# Altium footprint library Crazyflie_Shield3.PcbLib: 25 footprints (part 1 of 2)
Each footprint in its own frame and in the unit in brackets; x right, y up, seen from the top. Pads: shape width x height; smd on the part's side, far side on the other; paste and mask are expansions set on the pad; w line width, h text height; cw(c..) or ccw(c..) is an arc to the next point about the centre after c.
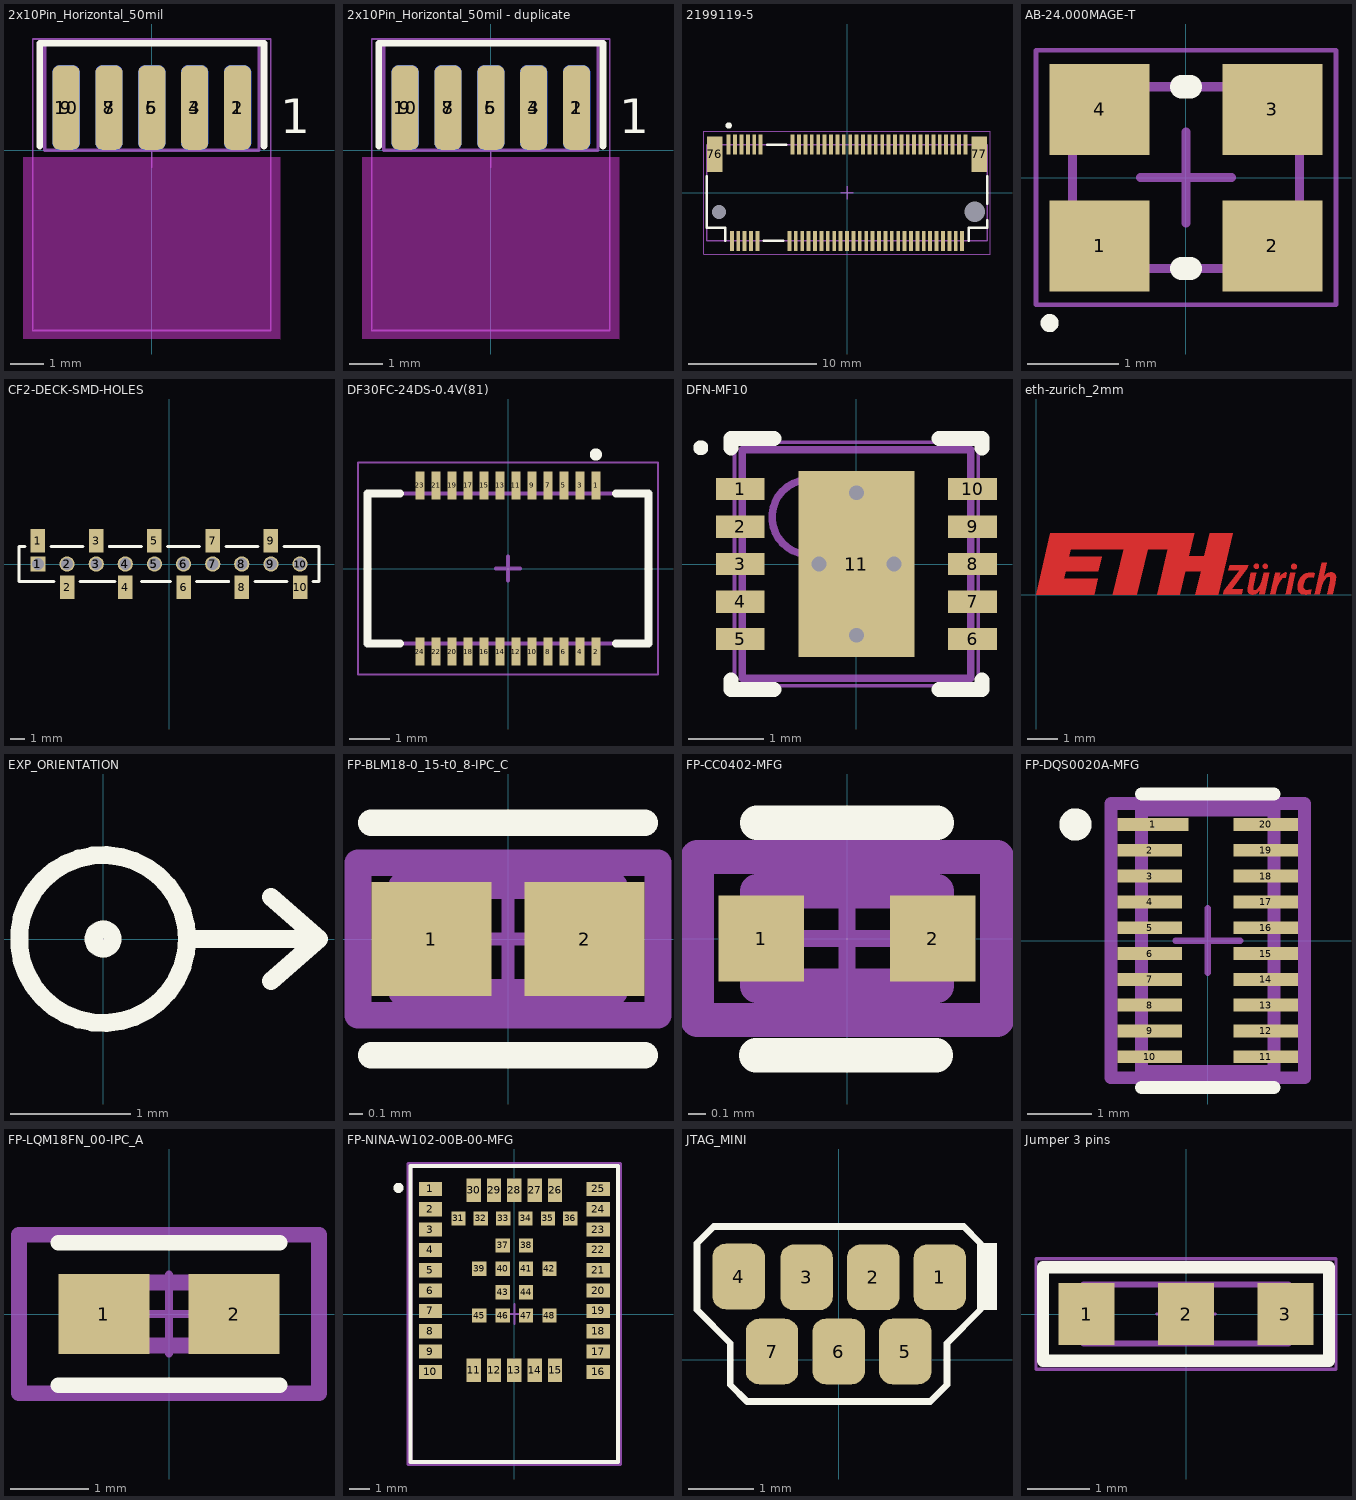
[diagram p0: the footprints below, top view; thin cyan lines are the x and y axes]

## 2x10Pin_Horizontal_50mil [mm] "Horizontal 2x20 Pin 50mil Header"
height 15
pads (10):
  rrect50% 0.8x2.5 smd: 1(2.54,1.27) 3(1.27,1.27) 5(0,1.27) 7(-1.27,1.27) 9(-2.54,1.27)
  rrect50% 0.8x2.5 smd far side: 2(2.54,1.27) 4(1.27,1.27) 6(0,1.27) 8(-1.27,1.27) 10(-2.54,1.27)
Top Overlay:
  lines w0.2: -3.325,0.13 -3.325,3.175 3.325,3.175 3.325,0.13
  text "1" at 3.81,0.508 h1.02
Bottom Overlay:
  lines w0.2: -3.325,0.13 -3.325,3.175 3.325,3.175 3.325,0.13
  text "2" at 4.209,0.236 h1.02
Keep-Out Layer:
  board cut-out: 3.81,-0.2 -3.81,-0.2 -3.81,-5.588 3.81,-5.588
Mechanical 13:
  lines w0.1: -3.175,0 3.175,0 3.175,3.175 -3.175,3.175 -3.175,0
Mechanical 15:
  lines w0.05: -0.5,0 0.5,0 ; 0,-0.5 0,0.5 ; -3.525,-5.334 -3.525,3.302 3.525,3.302 3.525,-5.334 -3.525,-5.334
3D body "62201021121.stp": height 1.26, standoff -2.14, extent -3.175,-5.3 3.175,2.3

## 2x10Pin_Horizontal_50mil - duplicate [mm] "Horizontal 2x20 Pin 50mil Header"
height 15
pads (10):
  rrect50% 0.8x2.5 smd: 1(2.54,1.27) 3(1.27,1.27) 5(0,1.27) 7(-1.27,1.27) 9(-2.54,1.27)
  rrect50% 0.8x2.5 smd far side: 2(2.54,1.27) 4(1.27,1.27) 6(0,1.27) 8(-1.27,1.27) 10(-2.54,1.27)
Top Overlay:
  lines w0.2: -3.325,0.13 -3.325,3.175 3.325,3.175 3.325,0.13
  text "1" at 3.81,0.508 h1.02
Bottom Overlay:
  lines w0.2: -3.325,0.13 -3.325,3.175 3.325,3.175 3.325,0.13
  text "2" at 4.209,0.236 h1.02
Keep-Out Layer:
  board cut-out: 3.81,-0.2 -3.81,-0.2 -3.81,-5.588 3.81,-5.588
Mechanical 13:
  lines w0.1: -3.175,0 3.175,0 3.175,3.175 -3.175,3.175 -3.175,0
Mechanical 15:
  lines w0.05: -0.5,0 0.5,0 ; 0,-0.5 0,0.5 ; -3.525,-5.334 -3.525,3.302 3.525,3.302 3.525,-5.334 -3.525,-5.334
3D body "62201021121.stp": height 1.26, standoff -2.14, extent -3.175,-5.3 3.175,2.3

## 2199119-5 [mm] "CONN FEMALE 67POS 0.020 GOLD"
height 3.2
pads (71):
  rect 0.3x1.55 smd mask+0.05: 1(-9.25,3.775) 2(-9,-3.775) 3(-8.75,3.775) 4(-8.5,-3.775) 5(-8.25,3.775) 6(-8,-3.775) 7(-7.75,3.775) 8(-7.5,-3.775) 9(-7.25,3.775) 10(-7,-3.775) 11(-6.75,3.775) 20(-4.5,-3.775) 21(-4.25,3.775) 22(-4,-3.775) 23(-3.75,3.775) 24(-3.5,-3.775) 25(-3.25,3.775) 26(-3,-3.775) 27(-2.75,3.775) 28(-2.5,-3.775) 29(-2.25,3.775) 30(-2,-3.775) 31(-1.75,3.775) 32(-1.5,-3.775) 33(-1.25,3.775) 34(-1,-3.775) 35(-0.75,3.775) 36(-0.5,-3.775) 37(-0.25,3.775) 38(0,-3.775) 39(0.25,3.775) 40(0.5,-3.775) 41(0.75,3.775) 42(1,-3.775) 43(1.25,3.775) 44(1.5,-3.775) 45(1.75,3.775) 46(2,-3.775) 47(2.25,3.775) 48(2.5,-3.775) 49(2.75,3.775) 50(3,-3.775) 51(3.25,3.775) 52(3.5,-3.775) 53(3.75,3.775) 54(4,-3.775) 55(4.25,3.775) 56(4.5,-3.775) 57(4.75,3.775) 58(5,-3.775) 59(5.25,3.775) 60(5.5,-3.775) 61(5.75,3.775) 62(6,-3.775) 63(6.25,3.775) 64(6.5,-3.775) 65(6.75,3.775) 66(7,-3.775) 67(7.25,3.775) 68(7.5,-3.775) 69(7.75,3.775) 70(8,-3.775) 71(8.25,3.775) 72(8.5,-3.775) 73(8.75,3.775) 74(9,-3.775) 75(9.25,3.775)
  rect 1.2x2.75 smd: 76(-10.35,3) 77(10.35,3)
  round 0.5 hole 1.1 unplated mask+0.3: ""(-10,-1.5)
  round 1 hole 1.6 unplated mask+0.3: ""(10,-1.5)
Top Overlay:
  circle w0.25: c-9.25,5.25 r0.125
  lines w0.2: -10.95,1.275 -10.95,-2.75 -9.5,-2.75 -9.5,-3.75 ; -6.5,-3.75 -5,-3.75 ; -6.25,3.75 -4.75,3.75 ; 9.5,-3.75 9.5,-2.75 10.95,-2.75 10.95,-2.148 ; 10.95,-0.852 10.95,1.275
Mechanical 12:
  lines w0.1: -10.95,-3.75 10.95,-3.75 10.95,3.75 -10.95,3.75 -10.95,-3.75
Mechanical 15:
  lines w0.05: -11.2,-4.8 11.2,-4.8 11.2,4.8 -11.2,4.8 -11.2,-4.8
  lines w0.1: -0.5,0 0.5,0 ; 0,-0.5 0,0.5
3D body "c-2199119-5-c-3d.stp": height 3.11, standoff -0.51, extent -10.95,-4.35 10.95,4.35

## AB-24.000MAGE-T [mm] "Crystal Surface Mount 4-SMD"
height 1
pads (4):
  rect 1.1x1 smd: 1(-0.95,-0.75) 2(0.95,-0.75) 3(0.95,0.75) 4(-0.95,0.75)
Top Overlay:
  circle w0.1: c-1.5,-1.6 r0.05
  lines w0.254: -0.05,-1 0.05,-1 ; -0.05,1 0.05,1
Mechanical 12:
  lines w0.1: -1.25,-1 -1.25,1 1.25,1 1.25,-1 -1.25,-1
Mechanical 15:
  lines w0.05: -1.65,-1.4 -1.65,1.4 1.65,1.4 1.65,-1.4 -1.65,-1.4
  lines w0.1: -0.5,0 0.5,0 ; 0,-0.5 0,0.5
3D body: height 0.8, standoff 0, extent -1.25,-1 1.25,1

## CF2-DECK-SMD-HOLES [mm]
pads (30):
  rect 1.05x1.05 hole 0.8: 1(-9,0)
  round 1.05 smd: 1(-9,0) 2(-7,0) 3(-5,0) 4(-3,0) 5(-1,0) 6(1,0) 7(3,0) 8(5,0) 9(7,0) 10(9,0)
  rect 1x1.6 smd: 1(-9,1.6) 2(-7,-1.6) 3(-5,1.6) 4(-3,-1.6) 5(-1,1.6) 6(1,-1.6) 7(3,1.6) 8(5,-1.6) 9(7,1.6) 10(9,-1.6)
  round 1.05 hole 0.8: 2(-7,0) 3(-5,0) 4(-3,0) 5(-1,0) 6(1,0) 7(3,0) 8(5,0) 9(7,0) 10(9,0)
Top Overlay:
  lines w0.2: -9.9,1.2 -10.3,1.2 -10.3,-1.2 -7.9,-1.2 ; -8.1,1.2 -5.9,1.2 ; -6.1,-1.2 -3.7,-1.2 ; -4.1,1.2 -1.9,1.2 ; -1.9,-1.2 0.1,-1.2 ; -0.1,1.2 2.1,1.2 ; 1.9,-1.2 4.1,-1.2 ; 3.9,1.2 6.1,1.2 ; 5.9,-1.2 8.1,-1.2 ; 7.9,1.2 10.3,1.2 10.3,-1.2 9.9,-1.2

## DF30FC-24DS-0.4V(81) [mm] "CONN RCPT 24POS SMD GOLD"
height 0.9
pads (24):
  rect 0.23x0.7 smd mask+0.025: 1(2.2,2.08) 2(2.2,-2.08) 3(1.8,2.08) 4(1.8,-2.08) 5(1.4,2.08) 6(1.4,-2.08) 7(1,2.08) 8(1,-2.08) 9(0.6,2.08) 10(0.6,-2.08) 11(0.2,2.08) 12(0.2,-2.08) 13(-0.2,2.08) 14(-0.2,-2.08) 15(-0.6,2.08) 16(-0.6,-2.08) 17(-1,2.08) 18(-1,-2.08) 19(-1.4,2.08) 20(-1.4,-2.08) 21(-1.8,2.08) 22(-1.8,-2.08) 23(-2.2,2.08) 24(-2.2,-2.08)
Top Overlay:
  circle w0.254: c2.2,2.85 r0.025
  lines w0.2: -2.7,-1.88 -3.51,-1.88 -3.51,1.88 -2.7,1.88 ; 2.7,-1.88 3.51,-1.88 3.51,1.88 2.7,1.88
Mechanical 12:
  lines w0.1: -3.51,-1.88 3.51,-1.88 3.51,1.88 -3.51,1.88 -3.51,-1.88
Mechanical 15:
  lines w0.05: -3.75,-2.65 3.75,-2.65 3.75,2.65 -3.75,2.65 -3.75,-2.65
  lines w0.1: -0.3,0 0.3,0 ; 0,-0.3 0,0.3
3D body "DF30FC-24DS-0.4V.stp": height 0.91, standoff 0.01, extent -3.51,-2.28 3.51,2.28

## DFN-MF10 [mm] "SON, 10-Leads, Body 3x3mm, Pitch 0.5mm, Microchip Recommended"
height 1
pads (11):
  rect 0.65x0.3 smd: 1(-1.55,1) 2(-1.55,0.5) 3(-1.55,0) 4(-1.55,-0.5) 5(-1.55,-1) 6(1.55,-1) 7(1.55,-0.5) 8(1.55,0) 9(1.55,0.5) 10(1.55,1)
  rect 1.55x2.48 smd: 11(0,0)
via -0.5,0 diameter 0.5 hole 0.2
via 0.5,0 diameter 0.5 hole 0.2
via 0,0.95 diameter 0.5 hole 0.2
via 0,-0.95 diameter 0.5 hole 0.2
Top Overlay:
  circle w0.1: c-2.075,1.55 r0.05
  lines w0.2: -1.675,-1.55 -1.675,-1.675 -1.1,-1.675 ; -1.675,1.55 -1.675,1.675 -1.1,1.675 ; 1.1,-1.675 1.675,-1.675 1.675,-1.55 ; 1.1,1.675 1.675,1.675 1.675,1.55
Mechanical 13:
  circle w0.1: c-0.625,0.625 r0.5
  lines w0.1: -1.525,-1.525 -1.525,1.525 1.525,1.525 1.525,-1.525 -1.525,-1.525
Mechanical 15:
  lines w0.05: -1.625,-1.625 1.625,-1.625 1.625,1.625 -1.625,1.625 -1.625,-1.625
  lines w0.1: -0.5,0 0.5,0 ; 0,-0.5 0,0.5
3D body: height 1, standoff 0, extent -1.524,-1.524 1.524,1.524

## eth-zurich_2mm [mm] "Logo ETH Zurich"
height 15
Top Layer:
  circle w0.18: c7.176,0.926 r0.001
  circle w0.18: c7.462,0.926 r0.001
  circle w0.2: c8.399,0.915 r0.001
  region: 5.93,0 6.4,2 5.662,2 5.485,1.247 4.973,1.247 5.149,2 0.47,2 0,0 0.781,0 1.892,0 2.014,0.52 0.904,0.52 0.961,0.764 2.023,0.764 2.136,1.244 1.073,1.244 1.129,1.48 2.849,1.48 2.5,0 3.282,0 3.63,1.48 4.289,1.48 3.942,0 4.68,0 4.86,0.767 5.372,0.767 5.192,0
  region: 6.906,0.96 6.301,0.96 6.264,0.794 6.63,0.794 6.115,0.123 6.092,0.016 6.696,0.016 6.733,0.182 6.366,0.182 6.883,0.856
  region: 7.444,0.016 7.599,0.714 7.414,0.714 7.354,0.441 7.32,0.36 7.28,0.288 7.24,0.224 7.2,0.182 7.168,0.16 7.136,0.144 7.112,0.144 7.088,0.152 7.072,0.168 7.068,0.192 7.068,0.224 7.072,0.252 7.175,0.714 6.997,0.714 6.92,0.36 6.891,0.228 6.888,0.168 6.896,0.112 6.912,0.064 6.944,0.032 6.984,0.008 7.016,0 7.08,0 7.144,0.016 7.2,0.048 7.242,0.09 7.288,0.144 7.26,0.016
  region: 7.905,0.52 7.948,0.714 7.784,0.714 7.629,0.016 7.793,0.016 7.818,0.129 7.856,0.252 7.9,0.36 7.936,0.428 7.986,0.494 8.02,0.528 8.048,0.548 8.076,0.56 8.096,0.56 8.123,0.553 8.16,0.72 8.136,0.724 8.112,0.724 8.088,0.72 8.052,0.704 8.028,0.688 7.996,0.66 7.968,0.632 7.936,0.584
  region: 8.292,0.016 8.447,0.714 8.283,0.714 8.128,0.016
  region: 9.076,0.701 9.04,0.714 9,0.72 8.936,0.72 8.864,0.714 8.788,0.696 8.724,0.664 8.672,0.624 8.64,0.592 8.608,0.552 8.58,0.504 8.56,0.456 8.54,0.4 8.528,0.348 8.52,0.296 8.52,0.228 8.528,0.168 8.54,0.128 8.56,0.088 8.584,0.056 8.616,0.032 8.652,0.016 8.688,0.008 8.768,0 8.808,0 8.88,0.008 8.925,0.019 8.944,0.024 8.961,0.181 8.924,0.168 8.872,0.156 8.832,0.152 8.804,0.152 8.772,0.16 8.744,0.176 8.728,0.192 8.716,0.216 8.708,0.244 8.704,0.272 8.704,0.308 8.712,0.36 8.728,0.412 8.748,0.456 8.772,0.492 8.808,0.536 8.84,0.556 8.872,0.568 8.904,0.572 8.952,0.572 8.996,0.568 9.016,0.564 9.044,0.556
  region: 9.412,0.64 9.366,0.586 9.467,1.041 9.303,1.041 9.076,0.016 9.24,0.016 9.3,0.289 9.334,0.37 9.374,0.442 9.414,0.506 9.454,0.548 9.486,0.57 9.518,0.586 9.542,0.586 9.566,0.578 9.582,0.562 9.586,0.538 9.586,0.506 9.582,0.478 9.479,0.016 9.657,0.016 9.734,0.37 9.763,0.502 9.766,0.562 9.758,0.618 9.742,0.666 9.71,0.698 9.67,0.722 9.638,0.73 9.574,0.73 9.51,0.714 9.454,0.682
Top Solder:
  drawing of 10 lines, arcs and shapes, not listed

## EXP_ORIENTATION [mm]
Top Overlay:
  circle w0.15: c0,0 r0.079
  circle w0.15: c0,0 r0.7
  lines w0.15: 0.7,0 1.8,0 ; 1.4,-0.35 1.8,0 ; 1.4,0.35 1.8,0
Bottom Overlay:
  circle w0.15: c0,0 r0.7
  lines w0.15: -0.475,-0.475 0,0 ; -0.475,0.475 0,0 ; 0.475,-0.475 0,0 ; 0.475,0.475 0,0 ; 0.7,0 1.8,0 ; 1.4,-0.35 1.8,0 ; 1.4,0.35 1.8,0

## FP-BLM18-0_15-t0_8-IPC_C [mm]
height 15
pads (2):
  rect 0.906x0.858 smd paste+0 mask+0: 1(-0.576,0) 2(0.576,0)
Top Overlay:
  lines w0.2: -1.029,-0.875 1.029,-0.875 ; -1.029,0.875 1.029,0.875
Top 3D Body:
  lines w0.2: -0.8,-0.4 -0.8,0.4 0.8,0.4 0.8,-0.4 -0.8,-0.4
Top Courtyard:
  lines w0.2: -1.129,-0.575 -1.129,0.575 1.129,0.575 1.129,-0.575 -1.129,-0.575
Top Assembly:
  lines w0.2: -1.129,-0.575 -1.129,0.575 1.129,0.575 1.129,-0.575 -1.129,-0.575
Top Component Center:
  lines w0.1: -0.5,0 0.5,0 ; 0,-0.5 0,0.5
3D body "FBead_Murata_BLM18EG221SN1D_eec.STEP": height 0.95, standoff 0, extent -0.8,-0.4 0.8,0.4

## FP-CC0402-MFG [mm]
height 15
pads (2):
  rect 0.5x0.5 smd paste+0 mask+0: 1(-0.5,0) 2(0.5,0)
Top Overlay:
  lines w0.2: -0.53,-0.681 0.52,-0.681 ; -0.525,0.675 0.525,0.675
Top 3D Body:
  lines w0.2: -0.525,-0.275 0.525,-0.275 0.525,0.275 -0.525,0.275 -0.525,-0.275
Top Courtyard:
  lines w0.2: -0.875,-0.475 0.875,-0.475 0.875,0.475 -0.875,0.475 -0.875,-0.475
Top Assembly:
  lines w0.2: -0.875,-0.475 0.875,-0.475 0.875,0.475 -0.875,0.475 -0.875,-0.475
Top Component Center:
  lines w0.1: -0.5,0 0.5,0 ; 0,-0.5 0,0.5
3D body "Cap_YAGEO_CC0402KRX7R9BB101_eec.STEP": height 0.55, standoff 0, extent -0.5,-0.25 0.5,0.25

## FP-DQS0020A-MFG [mm]
pads (20):
  rect 1.1x0.2 smd paste-1000 mask+0: 1(-0.85,1.8)
  rect 1x0.2 smd paste-1000 mask+0: 2(-0.9,1.4) 3(-0.9,1) 4(-0.9,0.6) 5(-0.9,0.2) 6(-0.9,-0.2) 7(-0.9,-0.6) 8(-0.9,-1) 9(-0.9,-1.4) 10(-0.9,-1.8) 11(0.9,-1.8) 12(0.9,-1.4) 13(0.9,-1) 14(0.9,-0.6) 15(0.9,-0.2) 16(0.9,0.2) 17(0.9,0.6) 18(0.9,1) 19(0.9,1.4) 20(0.9,1.8)
Top Overlay:
  circle w0.25: c-2.05,1.8 r0.125
  lines w0.2: -1.025,-2.275 1.025,-2.275 ; -1.025,2.275 1.025,2.275
Top Paste:
  rectangle: 0.425,-1.9 1.375,-1.7
  rectangle: 0.425,-1.5 1.375,-1.3
  rectangle: 0.425,-1.1 1.375,-0.9
  rectangle: 0.425,-0.7 1.375,-0.5
  rectangle: 0.425,-0.3 1.375,-0.1
  rectangle: 0.425,0.1 1.375,0.3
  rectangle: 0.425,0.5 1.375,0.7
  rectangle: 0.425,0.9 1.375,1.1
  rectangle: 0.425,1.3 1.375,1.5
  rectangle: 0.425,1.7 1.375,1.9
  rectangle: -1.375,-1.9 -0.425,-1.7
  rectangle: -1.375,-1.5 -0.425,-1.3
  rectangle: -1.375,-1.1 -0.425,-0.9
  rectangle: -1.375,-0.7 -0.425,-0.5
  rectangle: -1.375,-0.3 -0.425,-0.1
  rectangle: -1.375,0.1 -0.425,0.3
  rectangle: -1.375,0.5 -0.425,0.7
  rectangle: -1.375,0.9 -0.425,1.1
  rectangle: -1.375,1.3 -0.425,1.5
  rectangle: -1.375,1.7 -0.325,1.9
Top 3D Body:
  lines w0.2: -1.025,-2.025 -1.025,2.025 1.025,2.025 1.025,-2.025 -1.025,-2.025
Top Courtyard:
  lines w0.2: -1.5,-2.125 -1.5,2.125 1.5,2.125 1.5,-2.125 -1.5,-2.125
Top Assembly:
  lines w0.2: -1.5,-2.125 -1.5,2.125 1.5,2.125 1.5,-2.125 -1.5,-2.125
  text ".Designator" at 0,0.188 h1
Top Component Center:
  lines w0.1: -0.5,0 0.5,0 ; 0,-0.5 0,0.5
3D body "IC_Texas_Instruments_TXB0108DQSR_eec.STEP": height 0.25, standoff 0, extent -1.5,-2.125 1.5,2.125

## FP-LQM18FN_00-IPC_A [mm]
height 15
pads (2):
  rect 1.158x1.012 smd paste+0 mask+0: 1(-0.827,0) 2(0.827,0)
Top Overlay:
  lines w0.2: -1.406,-0.906 1.406,-0.906 ; -1.406,0.906 1.406,0.906
Top 3D Body:
  lines w0.2: -0.8,-0.4 0.8,-0.4 0.8,0.4 -0.8,0.4 -0.8,-0.4
Top Courtyard:
  lines w0.2: -1.906,-1.006 1.906,-1.006 1.906,1.006 -1.906,1.006 -1.906,-1.006
Top Assembly:
  lines w0.2: -1.906,-1.006 1.906,-1.006 1.906,1.006 -1.906,1.006 -1.906,-1.006
  text ".Designator" at 0,0.188 h1
Top Component Center:
  lines w0.1: -0.5,0 0.5,0 ; 0,-0.5 0,0.5
3D body "Ind_Murata_LQM18FN4R7M00J_eec.STEP": height 0.9, standoff 0, extent -0.8,-0.4 0.8,0.4

## FP-NINA-W102-00B-00-MFG [mm]
height 15
pads (48):
  rect 1.15x0.7 smd paste+0 mask+0: 1(-4.125,6.15) 2(-4.125,5.15) 3(-4.125,4.15) 4(-4.125,3.15) 5(-4.125,2.15) 6(-4.125,1.15) 7(-4.125,0.15) 8(-4.125,-0.85) 9(-4.125,-1.85) 10(-4.125,-2.85) 16(4.125,-2.85) 17(4.125,-1.85) 18(4.125,-0.85) 19(4.125,0.15) 20(4.125,1.15) 21(4.125,2.15) 22(4.125,3.15) 23(4.125,4.15) 24(4.125,5.15) 25(4.125,6.15)
  rect 0.7x1.15 smd paste+0 mask+0: 11(-2,-2.775) 12(-1,-2.775) 13(0,-2.775) 14(1,-2.775) 15(2,-2.775) 26(2,6.075) 27(1,6.075) 28(0,6.075) 29(-1,6.075) 30(-2,6.075)
  rect 0.7x0.7 smd paste+0 mask+0: 31(-2.75,4.7) 32(-1.65,4.7) 33(-0.55,4.7) 34(0.55,4.7) 35(1.65,4.7) 36(2.75,4.7) 37(-0.575,3.37) 38(0.575,3.37) 39(-1.725,2.22) 40(-0.575,2.22) 41(0.575,2.22) 42(1.725,2.22) 43(-0.575,1.07) 44(0.575,1.07) 45(-1.725,-0.08) 46(-0.575,-0.08) 47(0.575,-0.08) 48(1.725,-0.08)
Top Overlay:
  circle w0.25: c-5.7,6.2 r0.125
  lines w0.2: -5.1,-7.275 5.1,-7.275 5.1,7.275 -5.1,7.275 -5.1,-7.275
Top 3D Body:
  lines w0.2: -5.1,-7.275 5.1,-7.275 5.1,7.275 -5.1,7.275 -5.1,-7.275
Top Courtyard:
  lines w0.2: -5.2,-7.375 5.2,-7.375 5.2,7.375 -5.2,7.375 -5.2,-7.375
Top Assembly:
  lines w0.2: -5.2,-7.375 5.2,-7.375 5.2,7.375 -5.2,7.375 -5.2,-7.375
  text ".Designator" at 0,0.188 h1
Top Component Center:
  lines w0.1: -0.5,0 0.5,0 ; 0,-0.5 0,0.5
3D body "UNK_U-Blox_NINA-W102-00B-00_eec.STEP": height 0.25, standoff 0, extent -5.2,-7.375 5.2,7.375

## JTAG_MINI [mm]
pads (7):
  rrect50% 0.8x1 smd: 1(1.543,1.256) 2(0.527,1.256) 3(-0.489,1.256) 4(-1.524,1.27) 5(1.016,0.127) 6(0,0.127) 7(-1.016,0.127)
Top Overlay:
  rectangle: 2.159,0.762 2.413,1.778
  lines w0.1: -2.159,0.762 -1.651,0.254 -1.651,-0.381 -1.397,-0.635 1.397,-0.635 1.651,-0.381 1.651,0.254 2.159,0.762 2.159,1.778 1.905,2.032 -1.905,2.032 -2.159,1.778 -2.159,0.762

## Jumper 3 pins [mm] "Jumper 3 pins 0603x2"
height 0.6
pads (3):
  rect 0.9x1 smd: 1(-1.6,0) 2(0,0) 3(1.6,0)
Top Overlay:
  lines w0.2: 2.3,0.75 2.3,-0.75 -2.3,-0.75 -2.3,0.75 2.3,0.75 ; 2.3,0.75 2.3,0.75
Mechanical 12:
  lines w0.1: -1.65,-0.475 -1.65,0.475 0.05,0.475 0.05,-0.475 -1.65,-0.475 ; -0.05,-0.475 1.65,-0.475 1.65,0.475 -0.05,0.475 -0.05,-0.475
Mechanical 15:
  lines w0.05: -0.475,0 0.475,0 ; 0,-0.475 0,0.475 ; -2.413,-0.889 -2.413,0.889 2.413,0.889 2.413,-0.889 -2.413,-0.889
3D body: height 0.6, standoff 0, extent -0.219,-0.474 0.05,0.475
3D body: height 0.6, standoff 0, extent -1.38,-0.474 -0.219,0.475
3D body: height 0.6, standoff 0, extent -1.649,-0.474 -1.38,0.475
3D body: height 0.6, standoff 0, extent 1.38,-0.474 1.649,0.475
3D body: height 0.6, standoff 0, extent 0.219,-0.474 1.38,0.475
3D body: height 0.6, standoff 0, extent -0.05,-0.474 0.219,0.475